# Altium integrated library Components - 25.08.25 - 11.32.IntLib: 1 symbol
Pins are listed as number, name and electrical type; pins without a type are passive.

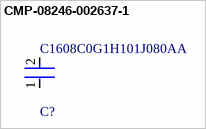
[diagram p0: symbol CMP-08246-002637-1]

## CMP-08246-002637-1
designator C?, comment C1608C0G1H101J080AA
Multilayer Ceramic Capacitors 100pF ±5% 50V C0G SMD 0603; Temperature Coefficient: 30ppm/°C; Dielectric Material: Ceramic; Width: 0.031inch; Case/Package: 0603; Package Quantity: 1; REACH SVHC: No SVHC; Depth: 0.8mm; Height: 0.8mm; Thickness: 0.037inch; Capacitance: 100pF; Min Operating Temperature: -55°C; Packaging: Tape and Reel; Case Code (Metric): 1608; Lead Free: Lead Free; Length: 1.6mm; Voltage: 50V; Dielectric: C0G; Tolerance: 5%; Weight: 7.1E-05oz; Voltage Rating (DC): 50V; Mount: Surface Mount; Termination: SMD/SMT; Voltage Rating: 50V; Series: C; Radiation Hardening: No; Number of Pins: 2; Max Operating Temperature: 125°C; Construction: Flat; RoHS Compliant: Yes; Case Code (Imperial): 0603
footprint FP-C1608-080-0_1-MFG
footprint FP-C1608-080-0_1-IPC_C
footprint FP-C1608-080-0_1-IPC_A
footprint FP-C1608-080-0_1-IPC_B
pins: 1, 2